# Altium schematic symbol library 互感器.SchLib: 5 symbols
Pins are listed as number, name and electrical type; pins without a type are passive.

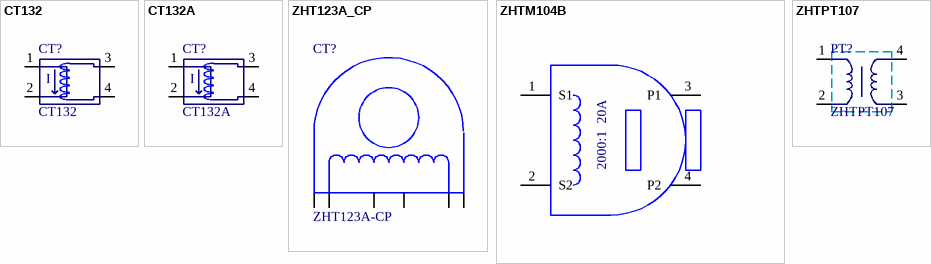
[diagram p0: symbols CT132 to ZHTPT107]

## CT132
designator CT?
电流互感器2000:1; 厂家: 圳恒通; 金蝶料号: 010102040004; 插件/贴片: 插件; 器件状态: 启用; 厂家型号: CT132; 工作温度: *; 值: CT132
footprint CT132
pins: 1, 2, 3, 4
text: I

## CT132A
designator CT?
电流互感器1000:1; 金蝶料号: 010102040001; 插件/贴片: 插件; 厂家型号: CT132A
footprint CT132A
pins: 1, 2, 3, 4
text: I

## ZHT123A_CP
designator CT?, comment ZHT123A-CP
插件精密电流互感器 40A
footprint ZHT123A_CP
pins: 1, 2, 3 NC, 4 NC, 5 P1, 6 P2

## ZHTM104B
designator CT?
电流互感器 2000:1 20A 0.1级; 厂家: ZHT; 金蝶料号: 010102040005; 工作温度: -40~85℃; 插件/贴片: 插件; 器件状态: 启用; 厂家型号: ZHTM104B; 值: ZHTM104B; ComponentLink1Description: New link; ComponentLink1URL: *
footprint ZHTM104B
pins: 1 S1, 2 S2, 3 P1, 4 P2
text: 2000:1  20A

## ZHTPT107
designator PT?
电压互感器 1000：1000  2mA; 厂家: 圳恒通; 金蝶料号: 010102040002; 插件/贴片: 插件; 器件状态: 启用; 厂家型号: ZHTPT107; 工作温度: *; 值: ZHTPT107
footprint ZHTPT107 (Footprint not found)
pins: 1, 2, 3, 4